# Altium schematic symbol library 1EDN7512B.SchLib: 1 symbol
Pins are listed as number, name and electrical type; pins without a type are passive.

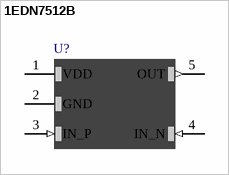
[diagram p0: symbol 1EDN7512B]

## 1EDN7512B
designator U?  (value not drawn)
EiceDRIVER, Fast Single Channel 4A/8A Low-Side Gate Driver, UVLO - 4.2V; Manufacturer: Infineon Technologies; ManufacturerPartNumber: 1EDN7512B; PackageReference: PG-SOT23-5-1
footprint SOT95P280X145-5N-5
pins: 1 VDD (power) "Positive Supply Voltage", 2 GND (power) "Ground", 3 IN_P (in) "Non-Inverting Input", 4 IN_N (in) "Inverting Input", 5 OUT (out) "Driver Output"